# EAGLE library part BQ24202 (library X893)
Single chip Li-Ion and Li-Pol charge management IC for current limited http://focus.ti.com/lit/ds/symlink/bq24202.pdf
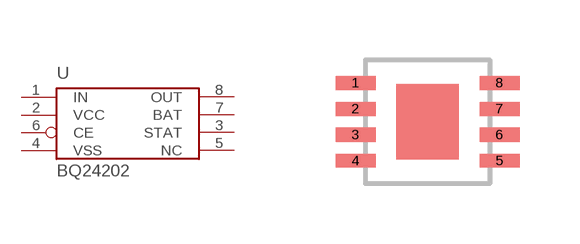
[diagram p12: symbol with the pads of DGN; footprint DGN]

Designator prefix U

## BQ24202  [DGN]
1  IN  pas
2  VCC  pas
3  STAT  out
4  VSS  pwr
5  NC  nc
6  CE  in
7  BAT  pwr
8  OUT  pwr

## Footprint DGN (pad centres in mm)
smd 1 x 0.35: 1 -1.8,0.975; 2 -1.8,0.325; 3 -1.8,-0.325; 4 -1.8,-0.975; 5 1.8,-0.975; 6 1.8,-0.325; 7 1.8,0.325; 8 1.8,0.975